# Altium schematic symbol library Passives.SchLib: 279 symbols (part 2 of 10)
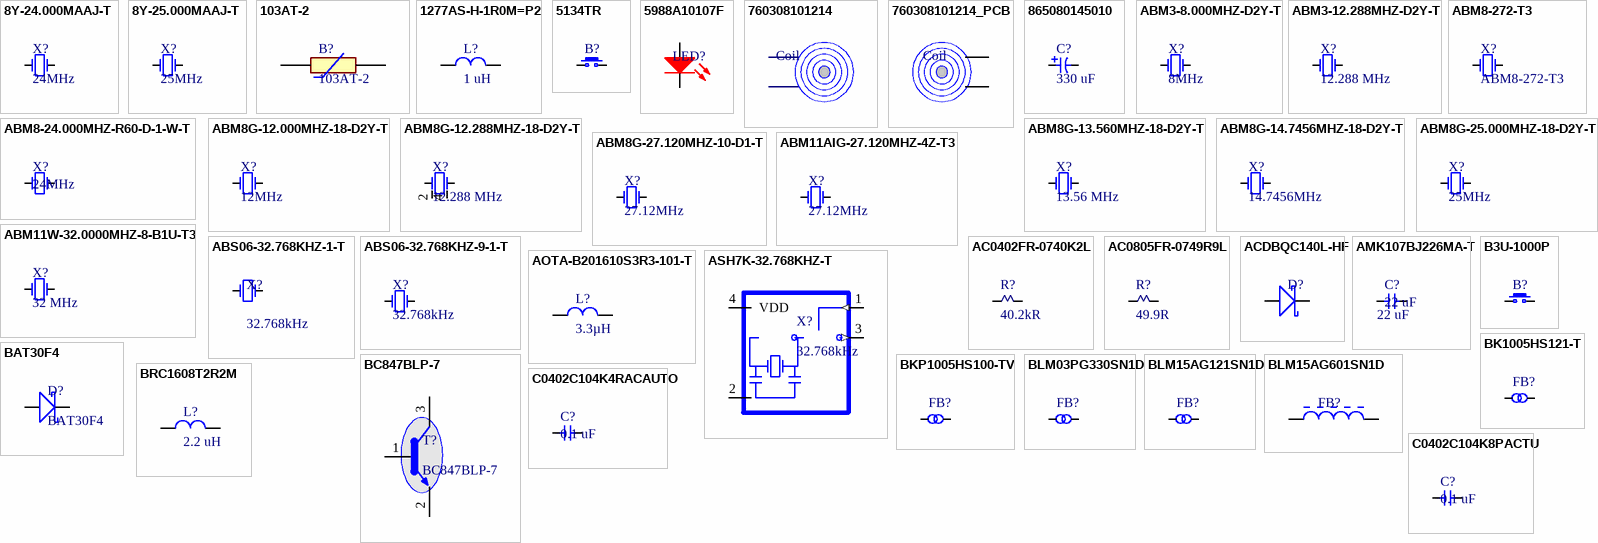
[diagram p8: symbols 8Y-24.000MAAJ-T to C0402C104K8PACTU]

## C0402C104K8PACTU
designator C?, comment 0.1 uF
CAP CER 0.1UF 10V X5R 0402; Manufacturer: Kemet; Manufacturer Part Number: C0402C104K8PACTU; Capacitance: 0.10µF; Tolerance: ±10%; Supplier 1: Digi-Key; RoHS: RoHS Compliant; Category: Capacitors; Stock 1: 733410; Pricing 1: 1=0.07, 10=0.019, 50=0.0108, 100=0.009, 250=0.0074, 500=0.00634, 1000=0.00493, 2500=0.00444, 5000=0.00411 (GBP); Packaging: Digi-Reel®; Part Status: Active; Voltage - Rated: 10V; Temperature Coefficient: X5R; Mounting Type: Surface Mount, MLCC; Operating Temperature: -55°C ~ 85°C; Applications: General Purpose; Ratings: -; Package / Case: 0402 (1005 Metric); Size / Dimension: 0.039" L x 0.020" W (1.00mm x 0.50mm); Height - Seated (Max): -; Thickness (Max): 0.022" (0.55mm); Lead Spacing: -; Features: -; Lead Style: -; ComponentLink1URL: http://www.kemet.com/docfinder?Partnumber=C0402C104K8PACTU; ComponentLink1Description: http://www.kemet.com/docfinder?Partnumber=C0402C104K8PACTU; Supplier Part Number 1: 399-3027-6-ND; Value: 0.1 uF
footprint CAPC1005X05N (Chip Capacitor, 2-Leads, Body 1.00x0.50mm, IPC Medium Density)
signal-integrity model Model Name (Model Description)
pins: 1, 2

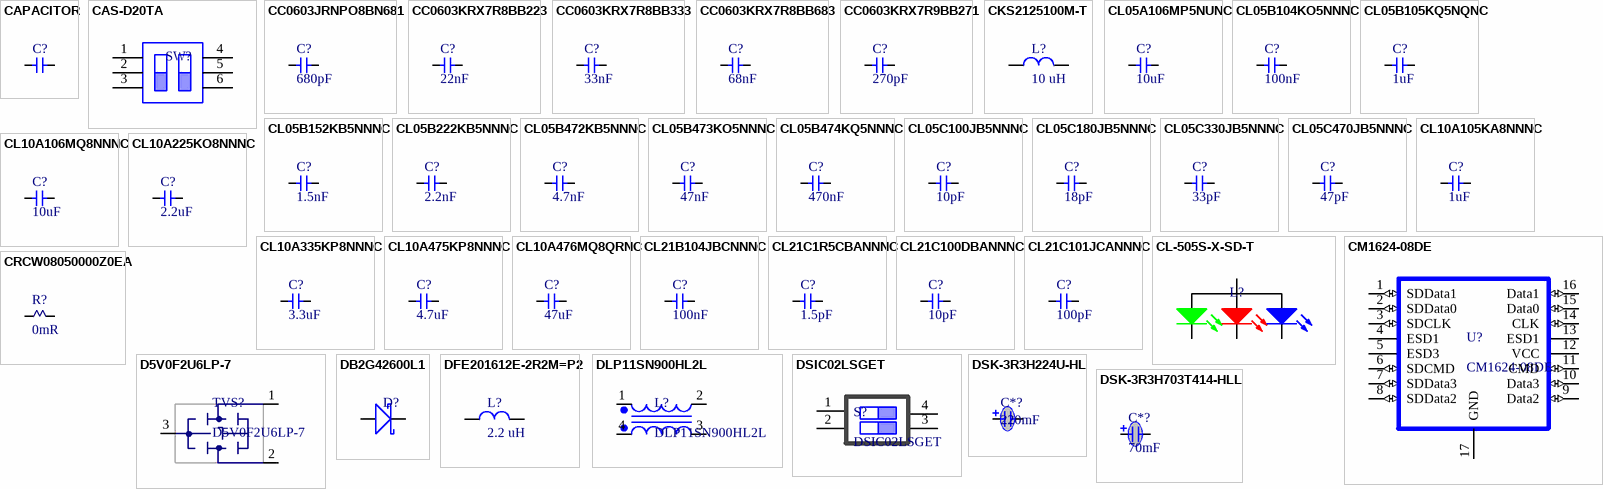
[diagram p1: symbols CAPACITOR to DSK-3R3H703T414-HLL]

## CAPACITOR
designator C?  (value not drawn)
footprint CAPC0603X03N (Chip Capacitor, 2-Leads, Body 0.60x0.30mm, IPC Medium Density)
footprint CAPC1005X05N (Chip Capacitor, 2-Leads, Body 1.00x0.50mm, IPC Medium Density)
footprint CAPC1610X05N (Chip Capacitor, 2-Leads, Body 1.60x1.00mm, IPC Medium Density)
footprint CAPC3216X19N (Chip Capacitor, 2-Leads, Body 3.20x1.60mm, IPC Medium Density)
pins: 1, 2

## CAS-D20TA
designator SW?  (value not drawn)
SWITCH SLIDE DIP SPDTX2 100MA 6V; Manufacturer: Copal Electronics Inc.; Number of Positions: 2; Voltage Rating: 6VDC; Actuator Type: Slide (Standard); Actuator Level: Flush, Recessed; Pitch: 0.068" (1.75mm); Washable: Yes; Body Material: Polyphenylene Sulfide (PPS); Electrical Life: 2,000 Cycles; Supplier 1: Digi-Key; Manufacturer Part Number: CAS-D20TA; RoHS: RoHS Compliant; Category: Switches; Stock 1: 15603; Pricing 1: 1=1.53, 10=1.44, 25=1.3812, 50=1.293, 100=1.2636, 250=1.11664, 500=1.05788 (GBP); Packaging: Digi-Reel®; Part Status: Active; Circuit: SPDT x 2; Current Rating: 100mA; Contact Material: Copper Alloy; Contact Finish: Gold; Height Above Board: 0.098" (2.50mm); Mounting Type: Surface Mount; Termination Style: J Lead; Features: Tape Seal; Length: 0.212" (5.40mm); Operating Temperature: -40°C ~ 85°C; Mechanical Life: -; ComponentLink1URL: http://www.nidec-copal-electronics.com/e/catalog/switch/cas.pdf; ComponentLink1Description: http://www.nidec-copal-electronics.com/e/catalog/switch/cas.pdf; Supplier Part Number 1: CASD20JDKR-ND
footprint SOJ175P440X250-6M (SOJ, 6-Leads, Body 5.40x4.35mm, Pitch 1.75mm, IPC Low Density)
pins: 1, 2, 3, 4, 5, 6

## CC0603JRNPO8BN681
designator C?, comment 680pF
Multilayer Ceramic Capacitor, 680 pF, 25 V, ± 5%, C0G (NP0), 0603 [1608 Metric]; Manufacturer: Yageo; Manufacturer Part Number: CC0603JRNPO8BN681; Voltage Rating (DC): 25V; Supplier: Farnell; Supplier Part Number: 4255181RL; RoHS: Yes; Category: Ceramic Capacitors; Stock: 4000; Pricing: 500=0.0231, 1000=0.019, 2000=0.0165, 4000=0.014, 20000=0.013, 40000=0.012 (EUR); Mounting Technology: Surface Mount; Case/Package: 0603; Case Code (Imperial): 0603; Case Code (Metric): 1608; Weight: 7.1E-05oz; Min Operating Temperature: -55°C; Max Operating Temperature: 125°C; Packaging: Tape and Reel; Value: 680pF; Tolerance: 5%; Dielectric: C0G; Voltage Rating: 25V; Termination: SMD/SMT; Series: CC; Length: 0.063inch; Width: 0.031inch; Thickness: 0.035inch; RoHS Compliant: Yes; Halogen Free: 5694HalogenFree; Lead Free: 5697LeadFree; ComponentLink1URL: https://datasheet.ciiva.com/13265/upy-gp-np0-16v-to-50v-8-3714-13265663.pdf?src-supplier=Mouser; ComponentLink1Description: https://datasheet.ciiva.com/13265/upy-gp-np0-16v-to-50v-8-3714-13265663.pdf?src-supplier=Mouser; Supplier 1: Mouser; Supplier Part Number 1: 603-CC603JRNPO8BN681; Supplier 2: Digikey; Supplier Part Number 2: 311-3958-2-ND
footprint CAPC1610X05N (Chip Capacitor, 2-Leads, Body 1.60x1.00mm, IPC Medium Density)
pins: 1, 2

## CC0603KRX7R8BB223
designator C?, comment 22nF
Cap Ceramic 0.022uF 25V X7R 10% SMD 0603 125C T/R; Manufacturer: Yageo; Manufacturer Part Number: CC0603KRX7R8BB223; Dielectric Material: 4241ConductorMaterial; Insulation Resistance: 100GR; Supplier: Digikey; Supplier Part Number: 311-1086-6-ND; RoHS: Yes; Category: Ceramic Capacitors; Stock: 2158; Pricing: 1=0.1, 10=0.051, 50=0.029, 100=0.0225, 500=0.01694, 1000=0.0133 (USD); Material: 4241ConductorMaterial; Voltage Rating (AC): 25V; Lead Free: 5697LeadFree; Halogen Free: 5694HalogenFree; ComponentLink1URL: https://datasheet.ciiva.com/26862/getdatasheetpartid-63198-26862836.pdf?src-supplier=Verical; ComponentLink1Description: https://datasheet.ciiva.com/26862/getdatasheetpartid-63198-26862836.pdf?src-supplier=Verical; ComponentLink2URL: https://datasheet.ciiva.com/144/mlccorderingcode-144884.pdf?src-supplier=Digikey; ComponentLink2Description: https://datasheet.ciiva.com/144/mlccorderingcode-144884.pdf?src-supplier=Digikey; ComponentLink3URL: https://datasheet.ciiva.com/144/mlccorderingcode-144885.pdf?src-supplier=Digikey; ComponentLink3Description: https://datasheet.ciiva.com/144/mlccorderingcode-144885.pdf?src-supplier=Digikey; ComponentLink4URL: https://datasheet.ciiva.com/144/mlccorderingcode-144886.pdf?src-supplier=Digikey; ComponentLink4Description: https://datasheet.ciiva.com/144/mlccorderingcode-144886.pdf?src-supplier=Digikey; ComponentLink5URL: https://datasheet.ciiva.com/5425/upy-gphc-x7r-6-3v-to-50v-8-5425477.pdf?src-supplier=Mouser; ComponentLink5Description: https://datasheet.ciiva.com/5425/upy-gphc-x7r-6-3v-to-50v-8-5425477.pdf?src-supplier=Mouser; ComponentLink6URL: https://datasheet.ciiva.com/11587/upy-gphc-x7r-6-3v-to-50v-8-11587212.pdf?src-supplier=Avnet; ComponentLink6Description: https://datasheet.ciiva.com/11587/upy-gphc-x7r-6-3v-to-50v-8-11587212.pdf?src-supplier=Avnet; ComponentLink7URL: https://datasheet.ciiva.com/7978/1489800-7978157.pdf?src-supplier=Element14; ComponentLink7Description: https://datasheet.ciiva.com/7978/1489800-7978157.pdf?src-supplier=Element14; Supplier 1: Mouser; Supplier Part Number 1: 603-CC603KRX7R8BB223; Supplier 2: Digikey; Supplier Part Number 2: 311-1086-6-ND; Value: 22nF
footprint CAPC1610X05N (Chip Capacitor, 2-Leads, Body 1.60x1.00mm, IPC Medium Density)
pins: 1, 2

## CC0603KRX7R8BB333
designator C?, comment 33nF
Surface Mount Ceramic Multilayer Capacitor 0.033uF 10% X7R 25V 0603 Paper T/R; Manufacturer: Yageo; Manufacturer Part Number: CC0603KRX7R8BB333; Material: 4241ConductorMaterial; Supplier: Digikey; Supplier Part Number: 311-1804-6-ND; RoHS: Yes; Category: Ceramic Capacitors; Stock: 2410; Pricing: 1=0.1, 10=0.05, 50=0.0288, 100=0.0223, 500=0.0168, 1000=0.01319 (USD); Mounting Technology: Surface Mount; Case/Package: 0603; Pins: 2; Case Code (Imperial): 0603; Case Code (Metric): 1608; Weight: 7.1E-05oz; Min Operating Temperature: -55°C; Max Operating Temperature: 125°C; Tolerance: 10%; Voltage Rating: 25V; Value: 33nF; Voltage Rating (DC): 25V; Packaging: Tape and Reel; Dielectric: X7R; Termination: SMD/SMT; Series: CC; Length: 1.6mm; Width: 0.8mm; Height: 0.8mm; Depth: 0.8mm; Radiation Hardening: No; Lead Free: Lead Free; Halogen Free: Halogen Free; RoHS Compliant: Yes; ComponentLink1URL: https://datasheet.ciiva.com/11465/upy-gphc-x7r-6-3v-to-50v-8-11465208.pdf?src-supplier=Avnet; ComponentLink1Description: https://datasheet.ciiva.com/11465/upy-gphc-x7r-6-3v-to-50v-8-11465208.pdf?src-supplier=Avnet; ComponentLink2URL: https://datasheet.ciiva.com/15189/getdatasheetpartid-355839-15189164.pdf?src-supplier=Verical; ComponentLink2Description: https://datasheet.ciiva.com/15189/getdatasheetpartid-355839-15189164.pdf?src-supplier=Verical; Supplier 1: Mouser; Supplier Part Number 1: 603-CC603KRX7R8BB333; Supplier 2: Digikey; Supplier Part Number 2: 311-1804-6-ND
footprint CAPC1610X05N (Chip Capacitor, 2-Leads, Body 1.60x1.00mm, IPC Medium Density)
pins: 1, 2

## CC0603KRX7R8BB683
designator C?, comment 68nF
Multilayer Ceramic Capacitor, 0.068 uF, 25 V, ± 10%, X7R, 0603 [1608 Metric]; Manufacturer: Yageo; Manufacturer Part Number: CC0603KRX7R8BB683; Voltage Rating (DC): 25V; Supplier: Digikey; Supplier Part Number: 311-4091-2-ND; RoHS: Yes; Category: Ceramic Capacitors; Stock: 100000; Pricing: 4000=0.01032, 8000=0.00942, 12000=0.00897, 28000=0.00853, 100000=0.0079 (USD); Mounting Technology: Surface Mount; Case/Package: 0603; Pins: 2; Case Code (Imperial): 0603; Case Code (Metric): 1608; Weight: 7.1E-05oz; Min Operating Temperature: -55°C; Max Operating Temperature: 125°C; Tolerance: 10%; Value: 68nF; Dielectric: X7R; Series: CC; Voltage Rating: 25V; Packaging: Tape and Reel; Termination: SMD/SMT; Construction: Flat; Voltage: 25V; Length: 1.6mm; Width: 0.8mm; Height: 0.8mm; Depth: 0.8mm; Thickness: 0.035inch; Radiation Hardening: No; RoHS Compliant: Yes; Lead Free: Lead Free; Halogen Free: Halogen Free; ComponentLink1URL: https://datasheet.ciiva.com/11786/0900766b80c10176-11786209.pdf?src-supplier=Rs; ComponentLink1Description: https://datasheet.ciiva.com/11786/0900766b80c10176-11786209.pdf?src-supplier=Rs; ComponentLink2URL: https://datasheet.ciiva.com/26862/getdatasheetpartid-403581-26862844.pdf?src-supplier=Verical; ComponentLink2Description: https://datasheet.ciiva.com/26862/getdatasheetpartid-403581-26862844.pdf?src-supplier=Verical; ComponentLink3URL: https://datasheet.ciiva.com/11465/upy-gphc-x7r-6-3v-to-50v-8-11465211.pdf?src-supplier=Avnet; ComponentLink3Description: https://datasheet.ciiva.com/11465/upy-gphc-x7r-6-3v-to-50v-8-11465211.pdf?src-supplier=Avnet; Supplier 1: Digikey; Supplier Part Number 1: 311-4091-2-ND; Supplier 2: Mouser; Supplier Part Number 2: 603-CC603KRX7R8BB683
footprint CAPC1610X05N (Chip Capacitor, 2-Leads, Body 1.60x1.00mm, IPC Medium Density)
pins: 1, 2

## CC0603KRX7R9BB271
designator C?, comment 270pF
Surface Mount Ceramic Multilayer Capacitor 270pF 10% X7R 50V 0603 Paper T/R; Manufacturer: Yageo; Manufacturer Part Number: CC0603KRX7R9BB271; Insulation Resistance: 100GR; Supplier: Future Electronics; Supplier Part Number: 9231978; RoHS: Yes; Category: Ceramic Capacitors; Stock: 824000; Pricing: 4000=0.0054, 16000=0.0051, 80000=0.0047, 160000=0.0046, 500000=0.0043 (USD); Mounting Technology: Surface Mount; Case/Package: 0603; Case Code (Metric): 1608; Case Code (Imperial): 0603; Dielectric Material: Ceramic; Min Operating Temperature: -55°C; Max Operating Temperature: 125°C; Value: 270pF; Tolerance: 10%; Voltage Rating (DC): 50V; Packaging: Tape and Reel; Dielectric: X7R; Termination: SMD/SMT; Voltage Rating: 50V; Series: CC; Construction: Flat; Package Quantity: 1; Length: 1.6mm; Width: 0.031inch; Height: 0.8mm; Thickness: 0.035inch; Depth: 0.8mm; Radiation Hardening: No; RoHS Compliant: Yes; Lead Free: Lead Free; Halogen Free: Halogen Free; Reach SVHC Compliant: Unknown; ComponentLink1URL: https://datasheet.ciiva.com/26862/getdatasheetpartid-58433-26862856.pdf?src-supplier=Verical; ComponentLink1Description: https://datasheet.ciiva.com/26862/getdatasheetpartid-58433-26862856.pdf?src-supplier=Verical; ComponentLink2URL: https://datasheet.ciiva.com/8033/1489800-8033871.pdf?src-supplier=Element14; ComponentLink2Description: https://datasheet.ciiva.com/8033/1489800-8033871.pdf?src-supplier=Element14; ComponentLink3URL: https://datasheet.ciiva.com/155/mlccorderingcode-155924.pdf?src-supplier=Digikey; ComponentLink3Description: https://datasheet.ciiva.com/155/mlccorderingcode-155924.pdf?src-supplier=Digikey; ComponentLink4URL: https://datasheet.ciiva.com/155/mlccorderingcode-155923.pdf?src-supplier=Digikey; ComponentLink4Description: https://datasheet.ciiva.com/155/mlccorderingcode-155923.pdf?src-supplier=Digikey; ComponentLink5URL: https://datasheet.ciiva.com/155/mlccorderingcode-155925.pdf?src-supplier=Digikey; ComponentLink5Description: https://datasheet.ciiva.com/155/mlccorderingcode-155925.pdf?src-supplier=Digikey; ComponentLink6URL: https://datasheet.ciiva.com/5425/upy-gphc-x7r-6-3v-to-50v-8-5425468.pdf?src-supplier=Mouser; ComponentLink6Description: https://datasheet.ciiva.com/5425/upy-gphc-x7r-6-3v-to-50v-8-5425468.pdf?src-supplier=Mouser; Supplier 1: Digikey; Supplier Part Number 1: 311-1185-6-ND; Supplier 2: Mouser; Supplier Part Number 2: 603-CC603KRX7R9BB271
footprint CAPC1610X05N (Chip Capacitor, 2-Leads, Body 1.60x1.00mm, IPC Medium Density)
pins: 1, 2

## CKS2125100M-T
designator L?, comment 10 uH
FIXED IND 10UH 110MA 520 MOHM; Manufacturer: Taiyo Yuden; Manufacturer Part Number: CKS2125100M-T; Type: Multilayer; Material - Core: Ferrite; Inductance: 10µH; Tolerance: ±20%; Shielding: Unshielded; DC Resistance (DCR): 520 mOhm Max; Frequency - Self Resonant: 24MHz; Frequency - Test: 2MHz; Supplier 1: Digi-Key; Supplier Part Number 1: 587-2608-1-ND; RoHS: RoHS Compliant; Category: Inductors, Coils, Chokes; Stock 1: 39483; Pricing 1: 1=0.15, 10=0.135, 25=0.1216, 50=0.1054, 100=0.0945, 250=0.0878, 500=0.08102, 1000=0.07022 (EUR); Packaging: Cut Tape (CT); Part Status: Active; Current Rating: 110mA; Current - Saturation: -; Q @ Freq: -; Ratings: -; Operating Temperature: -40°C ~ 85°C; Mounting Type: Surface Mount; Package / Case: 0805 (2012 Metric); Size / Dimension: 0.079" L x 0.049" W (2.00mm x 1.25mm); Height - Seated (Max): 0.057" (1.45mm); ComponentLink1URL: http://ds.yuden.co.jp/TYCOMPAS/ut/detail.do?productNo=CKS2125100M-T&fileName=CKS2125100M-T_SS&mode=specSheetDownload; ComponentLink1Description: http://ds.yuden.co.jp/TYCOMPAS/ut/detail.do?productNo=CKS2125100M-T&fileName=CKS2125100M-T_SS&mode=specSheetDownload; Value: 10 uH
footprint INDC2112X14N (Chip Inductor, 2-Leads, Body 2.10x1.25mm, IPC Medium Density)
signal-integrity model Model Name (Model Description)
pins: 1, 2

## CL05A106MP5NUNC
designator C?, comment 10uF
Multilayer Ceramic Capacitor, 10 uF, 10 V, ± 20%, X5R, 0402 [1005 Metric]; Manufacturer: Samsung; Manufacturer Part Number: CL05A106MP5NUNC; Voltage Rating: 10V; Supplier: Arrow Electronics; Supplier Part Number: CL05A106MP5NUNC; RoHS: Yes; Category: Ceramic Capacitors; Stock: 275; Pricing: 1=0,1584, 10=0,0737, 25=0,073, 100=0,0424, 250=0,042, 500=0,0416, 1000=0,0375 (USD); Mounting Technology: Surface Mount; Case/Package: 0402; Case Code (Metric): 1005; Case Code (Imperial): 0402; Min Operating Temperature: -55°C; Max Operating Temperature: 85°C; Package Quantity: 1; Packaging: Tape and Reel; Value: 10uF; Tolerance: 20%; Dielectric: X5R; Series: CL; Length: 1mm; Width: 0.02inch; Thickness: 0.028inch; Depth: 0.5mm; Radiation Hardening: No; Lead Free: Lead Free; RoHS Compliant: Yes; ComponentLink1URL: https://datasheet.ciiva.com/25721/cl05a106mp5nunc-25721584.pdf?src-supplier=Digi-Key; ComponentLink1Description: https://datasheet.ciiva.com/25721/cl05a106mp5nunc-25721584.pdf?src-supplier=Digi-Key; ComponentLink2URL: https://datasheet.ciiva.com/26838/getdatasheetpartid-745310-26838170.pdf?src-supplier=Verical; ComponentLink2Description: https://datasheet.ciiva.com/26838/getdatasheetpartid-745310-26838170.pdf?src-supplier=Verical; Supplier 1: Mouser; Supplier Part Number 1: 187-CL05A106MP5NUNC; Supplier 2: Digikey; Supplier Part Number 2: 1276-1450-1-ND
footprint CAPC1005X05N (Chip Capacitor, 2-Leads, Body 1.00x0.50mm, IPC Medium Density)
pins: 1, 2

## CL05B104KO5NNNC
designator C?, comment 100nF
CAP CER 0.1UF 16V X7R 0402; Manufacturer: Samsung; Manufacturer Part Number: CL05B104KO5NNNC; Material: Ceramic; Tolerance: 10%; Supplier 1: Digi-Key; Supplier Part Number 1: 1276-1001-1-ND; RoHS: Yes; Category: Ceramic Capacitors; Stock 1: 23848012; Pricing 1: 1=0.10000, 10=0.02500, 50=0.01380, 100=0.01130, 500=0.00804, 1000=0.00632, 2500=0.00575, 5000=0.00529 (USD); Mount: Surface Mount; Case/Package: 0402; Case Code (Metric): 1005; Case Code (Imperial): 0402; Contact Plating: Tin; Min Operating Temperature: -55°C; Max Operating Temperature: 125°C; Capacitance: 100nF; Dielectric: X7R; Package Quantity: 1; Packaging: Tape and Reel; Voltage Rating: 16V; Voltage: 16V; Voltage Rating (DC): 16V; Length: 1mm; Width: 0.02inch; Height: 0.5mm; Thickness: 0.022inch; Depth: 0.5mm; Radiation Hardening: No; Lead Free: Lead Free; ComponentLink1URL: https://datasheet.ciiva.com/26920/getdatasheetpartid-359683-26920169.pdf?src-supplier=Verical; ComponentLink1Description: https://datasheet.ciiva.com/26920/getdatasheetpartid-359683-26920169.pdf?src-supplier=Verical; ComponentLink2URL: https://datasheet.ciiva.com/29198/458718-da-01-en-vs-kondensator-0402-29198423.pdf?src-supplier=Conrad; ComponentLink2Description: https://datasheet.ciiva.com/29198/458718-da-01-en-vs-kondensator-0402-29198423.pdf?src-supplier=Conrad; ComponentLink3URL: https://datasheet.ciiva.com/16208/cl05b104kq5nnnc-16208343.pdf?src-supplier=Future+Electronics; ComponentLink3Description: https://datasheet.ciiva.com/16208/cl05b104kq5nnnc-16208343.pdf?src-supplier=Future+Electronics; ComponentLink4URL: https://datasheet.ciiva.com/26309/mlcc-catalogdownload2013-eng-26309003.pdf?src-supplier=Distrelec; ComponentLink4Description: https://datasheet.ciiva.com/26309/mlcc-catalogdownload2013-eng-26309003.pdf?src-supplier=Distrelec
footprint CAPC1005X05N (Chip Capacitor, 2-Leads, Body 1.00x0.50mm, IPC Medium Density)
pins: 1, 2

## CL05B105KQ5NQNC
designator C?, comment 1uF
CAP CER 1UF 6.3V X7R 0402; Manufacturer: Samsung; Manufacturer Part Number: CL05B105KQ5NQNC; Tolerance: 10%; Supplier 1: Digi-Key; Supplier Part Number 1: 1276-1513-1-ND; RoHS: Yes; Category: Ceramic Capacitors; Stock 1: 1059235; Pricing 1: 1=0.16000, 10=0.11700, 50=0.06640, 100=0.05500, 500=0.03858, 1000=0.03194, 2500=0.02973, 5000=0.02720 (USD); Mount: Surface Mount; Case/Package: 0402; Case Code (Metric): 1005; Case Code (Imperial): 0402; Contact Plating: Tin; Min Operating Temperature: -55°C; Max Operating Temperature: 125°C; Packaging: Tape and Reel; Package Quantity: 1; Capacitance: 1uF; Voltage Rating: 6.3V; Dielectric: X7R; Termination: Wraparound; Length: 1mm; Width: 0.02inch; Thickness: 0.022inch; Depth: 0.5mm; Lead Free: Lead Free; ComponentLink1URL: https://datasheet.ciiva.com/25797/cl05b105kq5nqnc-25797457.pdf?src-supplier=Digi-Key; ComponentLink1Description: https://datasheet.ciiva.com/25797/cl05b105kq5nqnc-25797457.pdf?src-supplier=Digi-Key
footprint CAPC1005X05N (Chip Capacitor, 2-Leads, Body 1.00x0.50mm, IPC Medium Density)
pins: 1, 2

## CL05B152KB5NNNC
designator C?, comment 1.5nF
Cap Ceramic 0.0015uF 50V X7R 10% SMD 0402 125C T/R; Manufacturer: Samsung; Manufacturer Part Number: CL05B152KB5NNNC; Supplier 1: Digi-Key; Supplier Part Number 1: 1276-1521-1-ND; RoHS: Yes; Category: Ceramic Capacitors; Stock 1: 400621; Pricing 1: 1=0.10000, 10=0.02000, 50=0.01080, 100=0.00880, 500=0.00628, 1000=0.00493, 2500=0.00448, 5000=0.00412 (USD); Mount: Surface Mount; Case/Package: 0402; Case Code (Imperial): 0402; Case Code (Metric): 1005; Contact Plating: Tin; Material: Ceramic; Min Operating Temperature: -55°C; Max Operating Temperature: 125°C; Dielectric: X7R; Tolerance: 10%; Capacitance: 1.5nF; Package Quantity: 1; Packaging: Tape and Reel; Voltage Rating: 50V; Voltage: 50V; Length: 1mm; Width: 0.02inch; Height: 0.5mm; Thickness: 0.022inch; Depth: 0.5mm; Radiation Hardening: No; ComponentLink1URL: https://datasheet.ciiva.com/15195/getdatasheetpartid-543173-15195639.pdf?src-supplier=Verical; ComponentLink1Description: https://datasheet.ciiva.com/15195/getdatasheetpartid-543173-15195639.pdf?src-supplier=Verical; ComponentLink2URL: https://datasheet.ciiva.com/16498/cl05b152kb5nnnc-16498493.pdf?src-supplier=Future+Electronics; ComponentLink2Description: https://datasheet.ciiva.com/16498/cl05b152kb5nnnc-16498493.pdf?src-supplier=Future+Electronics; ComponentLink3URL: https://datasheet.ciiva.com/29198/459134-da-01-en-vs-kondensator-0402-29198336.pdf?src-supplier=Conrad; ComponentLink3Description: https://datasheet.ciiva.com/29198/459134-da-01-en-vs-kondensator-0402-29198336.pdf?src-supplier=Conrad; ComponentLink4URL: https://datasheet.ciiva.com/26309/mlcc-catalogdownload2013-eng-26309021.pdf?src-supplier=Distrelec; ComponentLink4Description: https://datasheet.ciiva.com/26309/mlcc-catalogdownload2013-eng-26309021.pdf?src-supplier=Distrelec
footprint CAPC1005X05N (Chip Capacitor, 2-Leads, Body 1.00x0.50mm, IPC Medium Density)
pins: 1, 2

## CL05B222KB5NNNC
designator C?, comment 2.2nF
SMD Multilayer Ceramic Capacitor, 2200 pF, 50 V, 0402 [1005 Metric], ± 10%, X7R, CL Series; Manufacturer: Samsung; Manufacturer Part Number: CL05B222KB5NNNC; Voltage: 50V; Supplier 1: Digi-Key; Supplier Part Number 1: 1276-1054-1-ND; RoHS: Yes; Category: Ceramic Capacitors; Stock 1: 1054224; Pricing 1: 1=0.10000, 10=0.03000, 50=0.01640, 100=0.01340, 500=0.00954, 1000=0.00750, 2500=0.00682, 5000=0.00627 (USD); Mount: Surface Mount; Case/Package: 0402; Case Code (Imperial): 0402; Material: Ceramic; Case Code (Metric): 1005; Contact Plating: Tin; Min Operating Temperature: -55°C; Max Operating Temperature: 125°C; Dielectric: X7R; Capacitance: 2.2nF; Tolerance: 10%; Voltage Rating: 50V; Packaging: Tape and Reel; Package Quantity: 1; Length: 1mm; Width: 0.02inch; Height: 0.5mm; Thickness: 0.022inch; Depth: 0.5mm; Radiation Hardening: No; ComponentLink1URL: https://datasheet.ciiva.com/16498/cl05b222kb5nnnc-16498497.pdf?src-supplier=Future+Electronics; ComponentLink1Description: https://datasheet.ciiva.com/16498/cl05b222kb5nnnc-16498497.pdf?src-supplier=Future+Electronics; ComponentLink2URL: https://datasheet.ciiva.com/15195/getdatasheetpartid-358396-15195641.pdf?src-supplier=Verical; ComponentLink2Description: https://datasheet.ciiva.com/15195/getdatasheetpartid-358396-15195641.pdf?src-supplier=Verical; ComponentLink3URL: https://datasheet.ciiva.com/29198/459072-da-01-en-vs-kondensator-0402-29198327.pdf?src-supplier=Conrad; ComponentLink3Description: https://datasheet.ciiva.com/29198/459072-da-01-en-vs-kondensator-0402-29198327.pdf?src-supplier=Conrad; ComponentLink4URL: https://datasheet.ciiva.com/26309/mlcc-catalogdownload2013-eng-26309022.pdf?src-supplier=Distrelec; ComponentLink4Description: https://datasheet.ciiva.com/26309/mlcc-catalogdownload2013-eng-26309022.pdf?src-supplier=Distrelec
footprint CAPC1005X05N (Chip Capacitor, 2-Leads, Body 1.00x0.50mm, IPC Medium Density)
pins: 1, 2

## CL05B472KB5NNNC
designator C?, comment 4.7nF
Capacitor 4.7 nF 50 VDC PU=10000 ST, CL05B472KB5NNNC, Samsung; Material: Ceramic; Dielectric: X7R; Tolerance: 10%; Voltage: 50V; Supplier 1: Digi-Key; Supplier Part Number 1: 1276-1125-1-ND; Manufacturer: Samsung; Manufacturer Part Number: CL05B472KB5NNNC; RoHS: Yes; Category: Ceramic Capacitors; Stock 1: 239921; Pricing 1: 1=0.10000, 10=0.03000, 50=0.01640, 100=0.01340, 500=0.00954, 1000=0.00750, 2500=0.00682, 5000=0.00627 (USD); Mount: Surface Mount; Case/Package: 0402; Case Code (Metric): 1005; Case Code (Imperial): 0402; Min Operating Temperature: -55°C; Max Operating Temperature: 125°C; Capacitance: 4.7nF; Voltage Rating (DC): 50V; Package Quantity: 10000; Packaging: Tape and Reel; Voltage Rating: 50V; Length: 1mm; Width: 0.02inch; Height: 0.5mm; Thickness: 0.022inch; Depth: 0.5mm; Radiation Hardening: No; Lead Free: Lead Free; ComponentLink1URL: https://datasheet.ciiva.com/16199/cl05b472kb5nnnc-16199841.pdf?src-supplier=Future+Electronics; ComponentLink1Description: https://datasheet.ciiva.com/16199/cl05b472kb5nnnc-16199841.pdf?src-supplier=Future+Electronics; ComponentLink2URL: https://datasheet.ciiva.com/15195/getdatasheetpartid-359685-15195651.pdf?src-supplier=Verical; ComponentLink2Description: https://datasheet.ciiva.com/15195/getdatasheetpartid-359685-15195651.pdf?src-supplier=Verical; ComponentLink3URL: https://datasheet.ciiva.com/29198/458899-da-01-en-vs-kondensator-0402-29198308.pdf?src-supplier=Conrad; ComponentLink3Description: https://datasheet.ciiva.com/29198/458899-da-01-en-vs-kondensator-0402-29198308.pdf?src-supplier=Conrad; ComponentLink4URL: https://datasheet.ciiva.com/26309/mlcc-catalogdownload2013-eng-26309029.pdf?src-supplier=Distrelec; ComponentLink4Description: https://datasheet.ciiva.com/26309/mlcc-catalogdownload2013-eng-26309029.pdf?src-supplier=Distrelec
footprint CAPC1005X05N (Chip Capacitor, 2-Leads, Body 1.00x0.50mm, IPC Medium Density)
pins: 1, 2

## CL05B473KO5NNNC
designator C?, comment 47nF
SMD Multilayer Ceramic Capacitor, 0.047 µF, 16 V, 0402 [1005 Metric], ± 10%, X7R, CL Series; Manufacturer: Samsung; Manufacturer Part Number: CL05B473KO5NNNC; Voltage Rating (DC): 16V; Supplier 1: Digi-Key; Supplier Part Number 1: 1276-1077-1-ND; RoHS: Yes; Category: Ceramic Capacitors; Stock 1: 355937; Pricing 1: 1=0.10000, 10=0.02400, 50=0.01300, 100=0.01070, 500=0.00762, 1000=0.00599, 2500=0.00544, 5000=0.00501 (USD); Mount: Surface Mount; Case/Package: 0402; Case Code (Imperial): 0402; Case Code (Metric): 1005; Contact Plating: Tin; Min Operating Temperature: -55°C; Max Operating Temperature: 125°C; Capacitance: 47nF; Tolerance: 10%; Dielectric: X7R; Package Quantity: 1; Packaging: Tape and Reel; Voltage Rating: 16V; Voltage: 16V; Length: 1mm; Width: 0.02inch; Height: 0.5mm; Thickness: 0.022inch; Depth: 0.5mm; Radiation Hardening: No; Lead Free: Lead Free; ComponentLink1URL: https://datasheet.ciiva.com/15195/getdatasheetpartid-355279-15195652.pdf?src-supplier=Verical; ComponentLink1Description: https://datasheet.ciiva.com/15195/getdatasheetpartid-355279-15195652.pdf?src-supplier=Verical; ComponentLink2URL: https://datasheet.ciiva.com/26309/mlcc-catalogdownload2013-eng-26309004.pdf?src-supplier=Distrelec; ComponentLink2Description: https://datasheet.ciiva.com/26309/mlcc-catalogdownload2013-eng-26309004.pdf?src-supplier=Distrelec; ComponentLink3URL: https://datasheet.ciiva.com/16508/cl05b104kq5nnnc-16508542.pdf?src-supplier=Future+Electronics; ComponentLink3Description: https://datasheet.ciiva.com/16508/cl05b104kq5nnnc-16508542.pdf?src-supplier=Future+Electronics
footprint CAPC1005X05N (Chip Capacitor, 2-Leads, Body 1.00x0.50mm, IPC Medium Density)
pins: 1, 2

## CL05B474KQ5NNNC
designator C?, comment 470nF
Mlcc 0402 X7R 470NF ±10% 6.3V T: 0.5 ± 0.05MM; Manufacturer: Samsung; Manufacturer Part Number: CL05B474KQ5NNNC; Supplier 1: Arrow Electronics; Supplier Part Number 1: CL05B474KQ5NNNC; RoHS: Yes; Category: Ceramic Capacitors; Stock 1: 20000; Pricing 1: 20000=0.12970, 30000=0.11220, 50000=0.10190, 100000=0.09400 (USD); Case/Package: 0402; Dielectric: X7R; Voltage Rating (DC): 6.3V; Tolerance: 10%; Capacitance: 470nF
footprint CAPC1005X05N (Chip Capacitor, 2-Leads, Body 1.00x0.50mm, IPC Medium Density)
pins: 1, 2

## CL05C100JB5NNNC
designator C?, comment 10pF
CAP CER 10PF 50V C0G/NP0 0402; Manufacturer: Samsung; Manufacturer Part Number: CL05C100JB5NNNC; Material: Ceramic; Tolerance: 5%; Dielectric: C0G; Supplier 1: Digi-Key; Supplier Part Number 1: 1276-1139-1-ND; RoHS: Yes; Category: Ceramic Capacitors; Stock 1: 1196523; Pricing 1: 1=0.10000, 10=0.03100, 50=0.01720, 100=0.01400, 500=0.01002, 1000=0.00787, 2500=0.00715, 5000=0.00658 (USD); Mount: Surface Mount; Case/Package: 0402; Contact Plating: Tin; Case Code (Metric): 1005; Case Code (Imperial): 0402; Min Operating Temperature: -55°C; Max Operating Temperature: 125°C; Capacitance: 10pF; Packaging: Tape and Reel; Package Quantity: 10000; Voltage Rating: 50V; Length: 1mm; Width: 0.02inch; Height: 0.5mm; Thickness: 0.022inch; Depth: 0.5mm; Radiation Hardening: No; ComponentLink1URL: https://datasheet.ciiva.com/26838/getdatasheetpartid-355281-26838272.pdf?src-supplier=Verical; ComponentLink1Description: https://datasheet.ciiva.com/26838/getdatasheetpartid-355281-26838272.pdf?src-supplier=Verical; ComponentLink2URL: https://datasheet.ciiva.com/25806/cl05c100jb5nnnc-25806369.pdf?src-supplier=Digi-Key; ComponentLink2Description: https://datasheet.ciiva.com/25806/cl05c100jb5nnnc-25806369.pdf?src-supplier=Digi-Key; ComponentLink3URL: https://datasheet.ciiva.com/16207/cl05c100jb5nnnc-16207580.pdf?src-supplier=Future+Electronics; ComponentLink3Description: https://datasheet.ciiva.com/16207/cl05c100jb5nnnc-16207580.pdf?src-supplier=Future+Electronics; ComponentLink4URL: https://datasheet.ciiva.com/29198/458733-da-01-en-vs-kondensator-0402-29198427.pdf?src-supplier=Conrad; ComponentLink4Description: https://datasheet.ciiva.com/29198/458733-da-01-en-vs-kondensator-0402-29198427.pdf?src-supplier=Conrad
footprint CAPC1005X05N (Chip Capacitor, 2-Leads, Body 1.00x0.50mm, IPC Medium Density)
pins: 1, 2

## CL05C180JB5NNNC
designator C?, comment 18pF
CAP CER 18PF 50V C0G/NP0 0402; Manufacturer: Samsung; Manufacturer Part Number: CL05C180JB5NNNC; Material: Ceramic; Dielectric: C0G; Tolerance: 5%; Temperature Coefficient: 300ppm/°C; Supplier 1: Digi-Key; Supplier Part Number 1: 1276-1140-1-ND; RoHS: Yes; Category: Ceramic Capacitors; Stock 1: 723335; Pricing 1: 1=0.10000, 10=0.03500, 50=0.01900, 100=0.01560, 500=0.01112, 1000=0.00874, 2500=0.00795, 5000=0.00731 (USD); Mount: Surface Mount; Case/Package: 0402; Case Code (Imperial): 0402; Case Code (Metric): 1005; Contact Plating: Tin; Min Operating Temperature: -55°C; Max Operating Temperature: 125°C; Capacitance: 18pF; Voltage: 50V; Package Quantity: 1; Packaging: Tape and Reel; Voltage Rating: 50V; Length: 1mm; Width: 0.02inch; Height: 0.5mm; Thickness: 0.022inch; Depth: 0.5mm; Radiation Hardening: No; ComponentLink1URL: https://datasheet.ciiva.com/15195/getdatasheetpartid-482699-15195673.pdf?src-supplier=Verical; ComponentLink1Description: https://datasheet.ciiva.com/15195/getdatasheetpartid-482699-15195673.pdf?src-supplier=Verical; ComponentLink2URL: https://datasheet.ciiva.com/29198/458675-da-01-en-vs-kondensator-0402-29198417.pdf?src-supplier=Conrad; ComponentLink2Description: https://datasheet.ciiva.com/29198/458675-da-01-en-vs-kondensator-0402-29198417.pdf?src-supplier=Conrad; ComponentLink3URL: https://datasheet.ciiva.com/26309/mlcc-catalogdownload2013-eng-26309006.pdf?src-supplier=Distrelec; ComponentLink3Description: https://datasheet.ciiva.com/26309/mlcc-catalogdownload2013-eng-26309006.pdf?src-supplier=Distrelec
footprint CAPC1005X05N (Chip Capacitor, 2-Leads, Body 1.00x0.50mm, IPC Medium Density)
pins: 1, 2

## CL05C330JB5NNNC
designator C?, comment 33pF
Cap Ceramic 33pF 50V C0G 5% SMD 0402 125C Paper T/R; Manufacturer: Samsung; Manufacturer Part Number: CL05C330JB5NNNC; Temperature Coefficient: 300ppm/°C; Supplier 1: Digi-Key; Supplier Part Number 1: 1276-1272-1-ND; RoHS: Yes; Category: Ceramic Capacitors; Stock 1: 8775398; Pricing 1: 1=0.10000, 10=0.02400, 50=0.01340, 100=0.01090, 500=0.00778, 1000=0.00611, 2500=0.00556, 5000=0.00511 (USD); Mount: Surface Mount; Case/Package: 0402; Material: Ceramic; Case Code (Metric): 1005; Contact Plating: Tin; Case Code (Imperial): 0402; Min Operating Temperature: -55°C; Max Operating Temperature: 125°C; Voltage: 50V; Voltage Rating (DC): 50V; Package Quantity: 1; Packaging: Tape and Reel; Capacitance: 33pF; Tolerance: 5%; Voltage Rating: 50V; Dielectric: C0G; Length: 1mm; Width: 0.02inch; Height: 0.5mm; Depth: 0.5mm; Thickness: 0.022inch; Radiation Hardening: No; Lead Free: Lead Free; ComponentLink1URL: https://datasheet.ciiva.com/15195/getdatasheetpartid-355282-15195687.pdf?src-supplier=Verical; ComponentLink1Description: https://datasheet.ciiva.com/15195/getdatasheetpartid-355282-15195687.pdf?src-supplier=Verical; ComponentLink2URL: https://datasheet.ciiva.com/29198/458594-da-01-en-vs-kondensator-0402-29198402.pdf?src-supplier=Conrad; ComponentLink2Description: https://datasheet.ciiva.com/29198/458594-da-01-en-vs-kondensator-0402-29198402.pdf?src-supplier=Conrad
footprint CAPC1005X05N (Chip Capacitor, 2-Leads, Body 1.00x0.50mm, IPC Medium Density)
pins: 1, 2

## CL05C470JB5NNNC
designator C?, comment 47pF
CAP CER 47PF 50V C0G/NP0 0402; Manufacturer: Samsung; Manufacturer Part Number: CL05C470JB5NNNC; Material: Ceramic; Dielectric: C0G; Tolerance: 5%; Temperature Coefficient: 300ppm/°C; Supplier 1: Digi-Key; Supplier Part Number 1: 1276-1699-1-ND; RoHS: Yes; Category: Ceramic Capacitors; Stock 1: 850964; Pricing 1: 1=0.10000, 10=0.01500, 50=0.00840, 100=0.00690, 500=0.00492, 1000=0.00387, 2500=0.00352, 5000=0.00324 (USD); Mount: Surface Mount; Case/Package: 0402; Case Code (Metric): 1005; Case Code (Imperial): 0402; Contact Plating: Tin; Min Operating Temperature: -55°C; Max Operating Temperature: 125°C; Capacitance: 47pF; Packaging: Tape and Reel; Package Quantity: 1; Voltage Rating: 50V; Voltage: 50V; Length: 1mm; Width: 0.02inch; Height: 0.5mm; Thickness: 0.022inch; Depth: 0.5mm; Radiation Hardening: No; ComponentLink1URL: https://datasheet.ciiva.com/15195/getdatasheetpartid-466159-15195693.pdf?src-supplier=Verical; ComponentLink1Description: https://datasheet.ciiva.com/15195/getdatasheetpartid-466159-15195693.pdf?src-supplier=Verical; ComponentLink2URL: https://datasheet.ciiva.com/29198/458555-da-01-en-vs-kondensator-0402-29198397.pdf?src-supplier=Conrad; ComponentLink2Description: https://datasheet.ciiva.com/29198/458555-da-01-en-vs-kondensator-0402-29198397.pdf?src-supplier=Conrad; ComponentLink3URL: https://datasheet.ciiva.com/16297/cl05b104kq5nnnc-16297131.pdf?src-supplier=Future+Electronics; ComponentLink3Description: https://datasheet.ciiva.com/16297/cl05b104kq5nnnc-16297131.pdf?src-supplier=Future+Electronics
footprint CAPC1005X05N (Chip Capacitor, 2-Leads, Body 1.00x0.50mm, IPC Medium Density)
pins: 1, 2

## CL10A105KA8NNNC
designator C?, comment 1uF
SMD Multilayer Ceramic Capacitor, 1 µF, 25 V, 0603 [1608 Metric], ± 10%, X5R, CL Series; Manufacturer: Samsung; Manufacturer Part Number: CL10A105KA8NNNC; Voltage: 25V; Supplier 1: Digi-Key; Supplier Part Number 1: 1276-1102-1-ND; RoHS: Yes; Category: Ceramic Capacitors; Stock 1: 3264909; Pricing 1: 1=0.10000, 10=0.03500, 50=0.01900, 100=0.01550, 500=0.01108, 1000=0.00871 (USD); Mount: Surface Mount; Case/Package: 0603; Case Code (Metric): 1608; Case Code (Imperial): 0603; Material: Ceramic; Contact Plating: Tin; Min Operating Temperature: -55°C; Max Operating Temperature: 85°C; Capacitance: 1uF; Tolerance: 10%; Dielectric: X5R; Voltage Rating (DC): 25V; Packaging: Tape and Reel; Package Quantity: 1; Voltage Rating: 25V; Length: 1.6mm; Width: 0.031inch; Height: 0.8mm; Depth: 0.8mm; Thickness: 0.035inch; Radiation Hardening: No; Lead Free: Lead Free; ComponentLink1URL: https://datasheet.ciiva.com/25801/cl10a105ka8nnnc-25801364.pdf?src-supplier=Digi-Key; ComponentLink1Description: https://datasheet.ciiva.com/25801/cl10a105ka8nnnc-25801364.pdf?src-supplier=Digi-Key; ComponentLink2URL: https://datasheet.ciiva.com/26838/getdatasheetpartid-357530-26838332.pdf?src-supplier=Verical; ComponentLink2Description: https://datasheet.ciiva.com/26838/getdatasheetpartid-357530-26838332.pdf?src-supplier=Verical; ComponentLink3URL: https://datasheet.ciiva.com/29198/458162-da-01-en-vs-kondensator-0603-29198475.pdf?src-supplier=Conrad; ComponentLink3Description: https://datasheet.ciiva.com/29198/458162-da-01-en-vs-kondensator-0603-29198475.pdf?src-supplier=Conrad
footprint CAPC1610X05N (Chip Capacitor, 2-Leads, Body 1.60x1.00mm, IPC Medium Density)
pins: 1, 2

## CL10A106MQ8NNNC
designator C?, comment 10uF
Cap Ceramic 10uF 6.3V X5R 20% Pad SMD 0603 85°C T/R; Manufacturer: Samsung; Manufacturer Part Number: CL10A106MQ8NNNC; Supplier 1: Digi-Key; Supplier Part Number 1: 1276-1119-1-ND; RoHS: Yes; Category: Ceramic Capacitors; Stock 1: 2147316; Pricing 1: 1=0.11000, 10=0.07800, 50=0.04460, 100=0.03690, 500=0.02586, 1000=0.02141 (USD); Mount: Surface Mount; Case/Package: 0603; Case Code (Imperial): 0603; Case Code (Metric): 1608; Contact Plating: Tin; Min Operating Temperature: -55°C; Max Operating Temperature: 85°C; Capacitance: 10uF; Tolerance: 20%; Package Quantity: 1; Packaging: Tape and Reel; Voltage Rating: 6.3V; Dielectric: X5R; Voltage: 6.3V; Length: 1.6mm; Width: 0.031inch; Height: 0.8mm; Thickness: 0.035inch; Depth: 0.8mm; Radiation Hardening: No; ComponentLink1URL: https://datasheet.ciiva.com/25798/cl10a106mq8nnnc-25798320.pdf?src-supplier=Digi-Key; ComponentLink1Description: https://datasheet.ciiva.com/25798/cl10a106mq8nnnc-25798320.pdf?src-supplier=Digi-Key; ComponentLink2URL: https://datasheet.ciiva.com/26838/getdatasheetpartid-357557-26838347.pdf?src-supplier=Verical; ComponentLink2Description: https://datasheet.ciiva.com/26838/getdatasheetpartid-357557-26838347.pdf?src-supplier=Verical; ComponentLink3URL: https://datasheet.ciiva.com/16437/cl05b104kq5nnnc-16437327.pdf?src-supplier=Future+Electronics; ComponentLink3Description: https://datasheet.ciiva.com/16437/cl05b104kq5nnnc-16437327.pdf?src-supplier=Future+Electronics
footprint CAPC1610X05N (Chip Capacitor, 2-Leads, Body 1.60x1.00mm, IPC Medium Density)
pins: 1, 2

## CL10A225KO8NNNC
designator C?, comment 2.2uF
SMD Multilayer Ceramic Capacitor, 2.2 µF, 16 V, 0603 [1608 Metric], ± 10%, X5R, CL Series; Manufacturer: Samsung; Manufacturer Part Number: CL10A225KO8NNNC; Voltage Rating: 16V; Supplier 1: Digi-Key; Supplier Part Number 1: 1276-1040-1-ND; RoHS: Yes; Category: Ceramic Capacitors; Stock 1: 46180; Pricing 1: 1=0.10000, 10=0.07100, 50=0.03880, 100=0.03160, 500=0.02260, 1000=0.01776 (USD); Mount: Surface Mount; Case/Package: 0603; Case Code (Imperial): 0603; Contact Plating: Tin; Case Code (Metric): 1608; Material: Ceramic; Min Operating Temperature: -55°C; Max Operating Temperature: 85°C; Capacitance: 2.2uF; Tolerance: 10%; Dielectric: X5R; Packaging: Tape and Reel; Package Quantity: 4000; Voltage: 16V; Voltage Rating (DC): 16V; Length: 1.6mm; Width: 0.031inch; Height: 0.8mm; Thickness: 0.035inch; Depth: 0.8mm; Radiation Hardening: No; Lead Free: Lead Free; ComponentLink1URL: https://datasheet.ciiva.com/25798/cl10a225ko8nnnc-25798421.pdf?src-supplier=Digi-Key; ComponentLink1Description: https://datasheet.ciiva.com/25798/cl10a225ko8nnnc-25798421.pdf?src-supplier=Digi-Key; ComponentLink2URL: https://datasheet.ciiva.com/26838/getdatasheetpartid-355165-26838356.pdf?src-supplier=Verical; ComponentLink2Description: https://datasheet.ciiva.com/26838/getdatasheetpartid-355165-26838356.pdf?src-supplier=Verical; ComponentLink3URL: https://datasheet.ciiva.com/29198/457919-da-01-en-vs-kondensator-0603-29198587.pdf?src-supplier=Conrad; ComponentLink3Description: https://datasheet.ciiva.com/29198/457919-da-01-en-vs-kondensator-0603-29198587.pdf?src-supplier=Conrad; ComponentLink4URL: https://datasheet.ciiva.com/16342/cl05b104kq5nnnc-16342714.pdf?src-supplier=Future+Electronics; ComponentLink4Description: https://datasheet.ciiva.com/16342/cl05b104kq5nnnc-16342714.pdf?src-supplier=Future+Electronics
footprint CAPC1610X05N (Chip Capacitor, 2-Leads, Body 1.60x1.00mm, IPC Medium Density)
pins: 1, 2

## CL10A335KP8NNNC
designator C?, comment 3.3uF
CAP CER 3.3UF 10V X5R 0603; Manufacturer: Samsung; Manufacturer Part Number: CL10A335KP8NNNC; Tolerance: 10%; Supplier 1: Digi-Key; Supplier Part Number 1: 1276-1892-1-ND; RoHS: Yes; Category: Ceramic Capacitors; Stock 1: 195647; Pricing 1: 1=0.20000, 10=0.13600, 50=0.08180, 100=0.06910, 500=0.04730, 1000=0.04185 (USD); Mount: Surface Mount; Case/Package: 0603; Case Code (Metric): 1608; Case Code (Imperial): 0603; Min Operating Temperature: -55°C; Max Operating Temperature: 85°C; Capacitance: 3.3uF; Dielectric: X5R; Packaging: Tape and Reel; Package Quantity: 1; Voltage Rating: 10V; Voltage Rating (DC): 10V; Length: 1.6mm; Width: 0.031inch; Height: 0.8mm; Thickness: 0.035inch; Depth: 0.8mm; Radiation Hardening: No; Lead Free: Lead Free; ComponentLink1URL: https://datasheet.ciiva.com/25794/cl10a335kp8nnnc-25794982.pdf?src-supplier=Digi-Key; ComponentLink1Description: https://datasheet.ciiva.com/25794/cl10a335kp8nnnc-25794982.pdf?src-supplier=Digi-Key; ComponentLink2URL: https://datasheet.ciiva.com/26838/getdatasheetpartid-362799-26838374.pdf?src-supplier=Verical; ComponentLink2Description: https://datasheet.ciiva.com/26838/getdatasheetpartid-362799-26838374.pdf?src-supplier=Verical
footprint CAPC1610X05N (Chip Capacitor, 2-Leads, Body 1.60x1.00mm, IPC Medium Density)
pins: 1, 2

## CL10A475KP8NNNC
designator C?, comment 4.7uF
Cap Ceramic 4.7uF 10V X5R 10% Pad SMD 0603 85C T/R; Manufacturer: Samsung; Manufacturer Part Number: CL10A475KP8NNNC; Supplier 1: Digi-Key; Supplier Part Number 1: 1276-1044-1-ND; RoHS: Yes; Category: Ceramic Capacitors; Stock 1: 1008646; Pricing 1: 1=0.10000, 10=0.04800, 50=0.02620, 100=0.02140, 500=0.01528, 1000=0.01201 (USD); Mount: Surface Mount; Case/Package: 0603; Case Code (Imperial): 0603; Contact Plating: Tin; Case Code (Metric): 1608; Min Operating Temperature: -55°C; Max Operating Temperature: 85°C; Tolerance: 10%; Capacitance: 4.7uF; Dielectric: X5R; Package Quantity: 1; Packaging: Tape and Reel; Voltage Rating: 10V; Length: 1.6mm; Width: 0.031inch; Height: 0.8mm; Thickness: 0.035inch; Depth: 0.8mm; Radiation Hardening: No; ComponentLink1URL: https://datasheet.ciiva.com/25797/cl10a475kp8nnnc-25797520.pdf?src-supplier=Digi-Key; ComponentLink1Description: https://datasheet.ciiva.com/25797/cl10a475kp8nnnc-25797520.pdf?src-supplier=Digi-Key; ComponentLink2URL: https://datasheet.ciiva.com/26838/getdatasheetpartid-358676-26838384.pdf?src-supplier=Verical; ComponentLink2Description: https://datasheet.ciiva.com/26838/getdatasheetpartid-358676-26838384.pdf?src-supplier=Verical; ComponentLink3URL: https://datasheet.ciiva.com/16318/cl05b104kq5nnnc-16318245.pdf?src-supplier=Future+Electronics; ComponentLink3Description: https://datasheet.ciiva.com/16318/cl05b104kq5nnnc-16318245.pdf?src-supplier=Future+Electronics
footprint CAPC1610X05N (Chip Capacitor, 2-Leads, Body 1.60x1.00mm, IPC Medium Density)
pins: 1, 2

## CL10A476MQ8QRNC
designator C?, comment 47uF
CL10 Series 0603 47 uF 6.3 V ±20% Tolerance X5R Multilayer Ceramic Capacitor; Manufacturer: Samsung; Manufacturer Part Number: CL10A476MQ8QRNC; Supplier: Digikey; Supplier Part Number: 1276-CL10A476MQ8QRNCCT-ND; RoHS: Yes; Category: Ceramic Capacitors; Stock: 103327; Pricing: 1=1.04, 10=0.669, 100=0.477, 1000=0.37689 (USD); Case/Package: 345Case; Min Operating Temperature: -55°C; Max Operating Temperature: 85°C; Value: 47uF; Tolerance: 20%; Lead Free: 5697LeadFree; RoHS Compliant: 5897YesNo; ComponentLink1URL: https://datasheet.octopart.com/CL10A476MQ8QRNC-Samsung-Electro-Mechanics-datasheet-68300278.pdf?src-supplier=Future+Electronics; ComponentLink1Description: https://datasheet.octopart.com/CL10A476MQ8QRNC-Samsung-Electro-Mechanics-datasheet-68300278.pdf?src-supplier=Future+Electronics; Supplier 1: Digikey; Supplier Part Number 1: 1276-CL10A476MQ8QRNCCT-ND; Supplier 2: Digikey; Supplier Part Number 2: 1276-CL10A476MQ8QRNCDKR-ND
footprint CAPC1610X05N (Chip Capacitor, 2-Leads, Body 1.60x1.00mm, IPC Medium Density)
pins: 1, 2

## CL21B104JBCNNNC
designator C?, comment 100nF
Cap Ceramic 0.1uF 50V X7R 5% SMD 0805 125C Paper T/R; Manufacturer: Samsung; Manufacturer Part Number: CL21B104JBCNNNC; Supplier 1: RSComponents; Supplier Part Number 1: 7666187; RoHS: Yes; Category: Ceramic Capacitors; Stock 1: 5216000; Pricing 1: 4000=0.00900, 8000=0.00900, 16000=0.00800, 24000=0.00800, 40000=0.00600 (USD); Mount: Surface Mount; Case/Package: 0805; Contact Plating: Tin; Material: Ceramic; Case Code (Metric): 2012; Case Code (Imperial): 0805; Min Operating Temperature: -55°C; Max Operating Temperature: 125°C; Dielectric: X7R; Capacitance: 100nF; Tolerance: 5%; Voltage: 50V; Package Quantity: 1; Packaging: Tape and Reel; Voltage Rating: 50V; Length: 2mm; Width: 0.049inch; Height: 0.85mm; Depth: 1.25mm; Thickness: 0.037inch; Radiation Hardening: No; ComponentLink1URL: https://datasheet.ciiva.com/25799/cl21b104jbcnnnc-25799232.pdf?src-supplier=Digi-Key; ComponentLink1Description: https://datasheet.ciiva.com/25799/cl21b104jbcnnnc-25799232.pdf?src-supplier=Digi-Key; ComponentLink2URL: https://datasheet.ciiva.com/26838/getdatasheetpartid-354073-26838656.pdf?src-supplier=Verical; ComponentLink2Description: https://datasheet.ciiva.com/26838/getdatasheetpartid-354073-26838656.pdf?src-supplier=Verical; ComponentLink3URL: https://datasheet.ciiva.com/29199/454108-da-01-en-vs-kondensator-0805-29199802.pdf?src-supplier=Conrad; ComponentLink3Description: https://datasheet.ciiva.com/29199/454108-da-01-en-vs-kondensator-0805-29199802.pdf?src-supplier=Conrad; ComponentLink4URL: https://datasheet.ciiva.com/16508/hsm00000015872757-16508637.pdf?src-supplier=Future+Electronics; ComponentLink4Description: https://datasheet.ciiva.com/16508/hsm00000015872757-16508637.pdf?src-supplier=Future+Electronics
footprint CAPC2012X14N (Chip Capacitor, 2-Leads, Body 2.00x1.25mm, IPC Medium Density)
pins: 1, 2

## CL21C1R5CBANNNC
designator C?, comment 1.5pF
Cap Ceramic 1.5pF 50V C0G 0.25pF SMD 0805 125C Paper T/R; Manufacturer: Samsung; Manufacturer Part Number: CL21C1R5CBANNNC; Temperature Coefficient: 300ppm/°C; Supplier 1: Digi-Key; Supplier Part Number 1: 1276-2598-1-ND; RoHS: Yes; Category: Ceramic Capacitors; Stock 1: 191130; Pricing 1: 1=0.19000, 10=0.13300, 50=0.07960, 100=0.06730, 500=0.04602, 1000=0.04071 (USD); Mount: Surface Mount; Case/Package: 0805; Material: Ceramic; Case Code (Imperial): 0805; Case Code (Metric): 2012; Min Operating Temperature: -55°C; Max Operating Temperature: 125°C; Dielectric: C0G; Capacitance: 1.5pF; Voltage Rating (DC): 50V; Packaging: Tape and Reel; Voltage: 50V; Package Quantity: 1; Voltage Rating: 50V; Length: 2mm; Width: 0.049inch; Height: 0.65mm; Depth: 1.25mm; Thickness: 0.03inch; Radiation Hardening: No; Lead Free: Lead Free; ComponentLink1URL: https://datasheet.ciiva.com/26878/getdatasheetpartid-690306-26878134.pdf?src-supplier=Verical; ComponentLink1Description: https://datasheet.ciiva.com/26878/getdatasheetpartid-690306-26878134.pdf?src-supplier=Verical; ComponentLink2URL: https://datasheet.ciiva.com/29199/455790-da-01-en-vs-kondensator-0805-29199168.pdf?src-supplier=Conrad; ComponentLink2Description: https://datasheet.ciiva.com/29199/455790-da-01-en-vs-kondensator-0805-29199168.pdf?src-supplier=Conrad; ComponentLink3URL: https://datasheet.ciiva.com/16389/cl05b104kq5nnnc-16389275.pdf?src-supplier=Future+Electronics; ComponentLink3Description: https://datasheet.ciiva.com/16389/cl05b104kq5nnnc-16389275.pdf?src-supplier=Future+Electronics
footprint CAPC2012X14N (Chip Capacitor, 2-Leads, Body 2.00x1.25mm, IPC Medium Density)
pins: 1, 2

## CL21C100DBANNNC
designator C?, comment 10pF
Cap Ceramic 10pF 50V C0G 0.5pF SMD 0805 125C T/R; Manufacturer: Samsung; Manufacturer Part Number: CL21C100DBANNNC; Supplier 1: Digi-Key; Supplier Part Number 1: 1276-2563-1-ND; RoHS: Yes; Category: Ceramic Capacitors; Stock 1: 1837; Pricing 1: 1=0.10000, 10=0.05200, 50=0.02820, 100=0.02310, 500=0.01648, 1000=0.01295 (USD); Mount: Surface Mount; Case/Package: 0805; Case Code (Metric): 2012; Case Code (Imperial): 0805; Min Operating Temperature: -55°C; Max Operating Temperature: 125°C; Capacitance: 10pF; Dielectric: C0G; Packaging: Tape and Reel; Package Quantity: 1; Voltage Rating: 50V; Length: 2mm; Width: 0.049inch; Height: 0.65mm; Depth: 1.25mm; Thickness: 0.03inch; Radiation Hardening: No; ComponentLink1URL: https://datasheet.ciiva.com/25770/cl21c100dbannnc-25770883.pdf?src-supplier=Digi-Key; ComponentLink1Description: https://datasheet.ciiva.com/25770/cl21c100dbannnc-25770883.pdf?src-supplier=Digi-Key; ComponentLink2URL: https://datasheet.ciiva.com/26838/getdatasheetpartid-748064-26838751.pdf?src-supplier=Verical; ComponentLink2Description: https://datasheet.ciiva.com/26838/getdatasheetpartid-748064-26838751.pdf?src-supplier=Verical; ComponentLink3URL: https://datasheet.ciiva.com/16449/cl05b104kq5nnnc-16449304.pdf?src-supplier=Future+Electronics; ComponentLink3Description: https://datasheet.ciiva.com/16449/cl05b104kq5nnnc-16449304.pdf?src-supplier=Future+Electronics
footprint CAPC2012X14N (Chip Capacitor, 2-Leads, Body 2.00x1.25mm, IPC Medium Density)
pins: 1, 2

## CL21C101JCANNNC
designator C?, comment 100pF
Cap Ceramic 100pF 100V C0G 5% SMD 0805 125C Paper T/R; Manufacturer: Samsung; Manufacturer Part Number: CL21C101JCANNNC; Temperature Coefficient: 300ppm/°C; Supplier 1: Digi-Key; Supplier Part Number 1: 1276-1261-1-ND; RoHS: Yes; Category: Ceramic Capacitors; Stock 1: 46696; Pricing 1: 1=0.10000, 10=0.04500, 50=0.02460, 100=0.02010, 500=0.01432, 1000=0.01125 (USD); Mount: Surface Mount; Case/Package: 0805; Contact Plating: Tin; Material: Ceramic; Case Code (Metric): 2012; Case Code (Imperial): 0805; Min Operating Temperature: -55°C; Max Operating Temperature: 125°C; Tolerance: 5%; Capacitance: 100pF; Dielectric: C0G; Voltage: 100V; Voltage Rating: 100V; Package Quantity: 1; Packaging: Tape and Reel; Length: 2mm; Width: 0.049inch; Height: 0.65mm; Depth: 1.25mm; Thickness: 0.03inch; Radiation Hardening: No; ComponentLink1URL: https://datasheet.ciiva.com/15195/getdatasheetpartid-543198-15195932.pdf?src-supplier=Verical; ComponentLink1Description: https://datasheet.ciiva.com/15195/getdatasheetpartid-543198-15195932.pdf?src-supplier=Verical; ComponentLink2URL: https://datasheet.ciiva.com/29199/454055-da-01-en-vs-kondensator-0805-29199890.pdf?src-supplier=Conrad; ComponentLink2Description: https://datasheet.ciiva.com/29199/454055-da-01-en-vs-kondensator-0805-29199890.pdf?src-supplier=Conrad; ComponentLink3URL: https://datasheet.ciiva.com/26310/mlcc-catalogdownload2013-eng-26310191.pdf?src-supplier=Distrelec; ComponentLink3Description: https://datasheet.ciiva.com/26310/mlcc-catalogdownload2013-eng-26310191.pdf?src-supplier=Distrelec
footprint CAPC2012X14N (Chip Capacitor, 2-Leads, Body 2.00x1.25mm, IPC Medium Density)
pins: 1, 2